# EAGLE library part FUSB302B (library Bits_library_eagle)
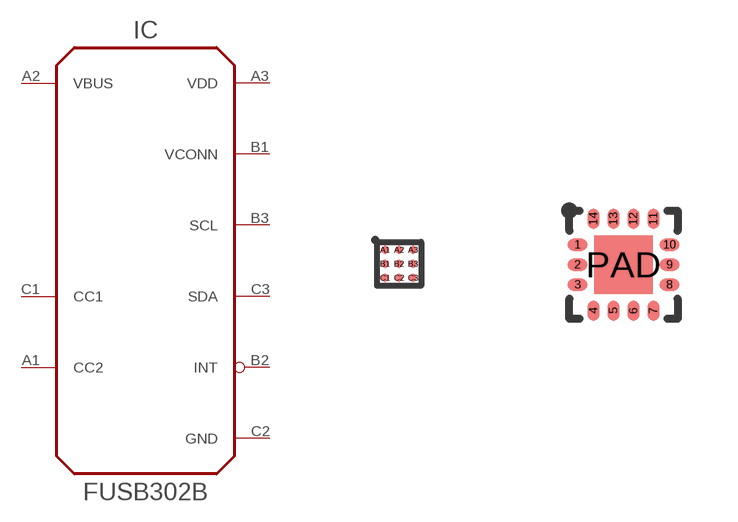
[diagram p25: symbol with the pads of WLCSP-9; footprints WLCSP-9, QFN-14]

Designator prefix IC

## FUSB302B  [WLCSP-9]
A1  CC2
A2  VBUS  pwr
A3  VDD  pwr
B1  VCONN  pwr
B2  INT
B3  SCL
C1  CC1
C2  GND  pwr
C3  SDA

## FUSB302BQFN14  [QFN-14]
1  CC2
2  VBUS  pwr
3  VDD  pwr
4  VDD  pwr
5  INT
6  SCL
7  SDA
8  GND  pwr
9  GND  pwr
10  CC1
11  CC1
12  VCONN  pwr
13  VCONN  pwr
14  CC2
PAD  GND  pwr

## Footprint WLCSP-9 (pad centres in mm)
smd 0.2 x 0.2: A1 -0.35,0.35; A2 0,0.35; A3 0.35,0.35; B1 -0.35,0; B2 0,0; B3 0.35,0; C1 -0.35,-0.35; C2 0,-0.35; C3 0.35,-0.35

## Footprint QFN-14 (pad centres in mm)
smd 0.5 x 0.3: 1 -1.15,0.5; 2 -1.15,0; 3 -1.15,-0.5; 8 1.15,-0.5; 9 1.15,0; 10 1.15,0.5
smd 0.3 x 0.5: 4 -0.75,-1.15; 5 -0.25,-1.15; 6 0.25,-1.15; 7 0.75,-1.15; 11 0.75,1.15; 12 0.25,1.15; 13 -0.25,1.15; 14 -0.75,1.15
smd 1.45 x 1.45: PAD 0,0